# Altium schematic symbol library LT3470.SchLib: 4 symbols
Pins are listed as number, name and electrical type; pins without a type are passive.

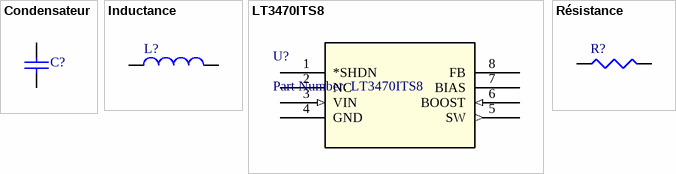
[diagram p0: symbols Condensateur to Résistance]

## Condensateur
designator C?
Condensateur; Supplier: Farnell; Designer: ECAM 2004
simulation model Model Name (Model Description)
footprint CAPR2.54-5.1x3.2 (Capacitor, Ceramic, Thru-Hole, Dipped Radial; Body 5.1 x 3.2 mm (WxT) Pin Spacing 2.54 mm (typ))
pins: 1, 2

## Inductance
designator L?
Inductance; Designer: ECAM 2003
simulation model INDUCTOR (Inductor)
signal-integrity model Inductor
footprint AXIAL-0.5 (Semiconductor Resistor; 2 Leads)
pins: 1, 2

## LT3470ITS8
designator U?, comment Part Number: LT3470ITS8
No Description Available; Vendor: Linear Technology; Manufacturer_Part_Number: LT3470ITS8; Copyright: Copyright (C) 2018 Accelerated Designs. All rights reserved; RefDes: RefDes; Type: DEV; Value: Value
footprint TSOT-23_TS8
pins: 1 *SHDN, 2 NC, 3 VIN (in), 4 GND (power), 5 SW (out), 6 BOOST (in), 7 BIAS, 8 FB

## Résistance
designator R?
Résistance standard; Designer: ECAM 2005; Type: Résistance standard
simulation model Model Name (Model Description)
footprint AXIAL-0.4 (Resistor; 2 Leads)
pins: 1, 2
3 alternate drawings of the same symbol